# EAGLE library part SI57X (library DaneGardner)
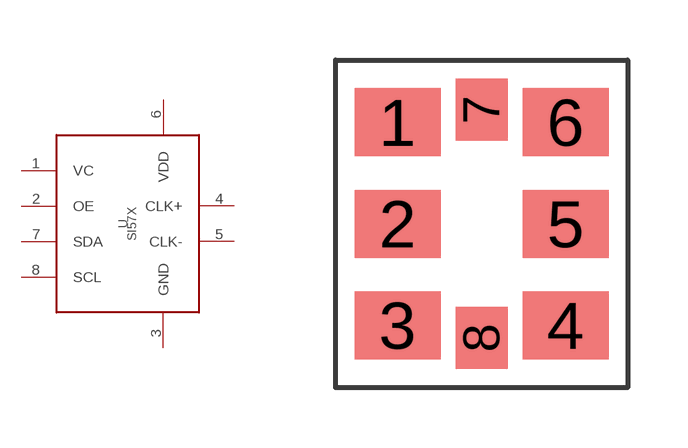
[diagram p9: symbol with the pads of SI57X; footprint SI57X]

Designator prefix -

## SI57X  [SI57X]
1  VC  in
2  OE  in
3  GND  pwr
4  CLK+  out
5  CLK-  out
6  VDD  pwr
7  SDA
8  SCL  in

## Footprint SI57X (pad centres in mm)
smd 2.15 x 1.7: 1 -2.1,2.54; 2 -2.1,0; 3 -2.1,-2.54; 4 2.1,-2.54; 5 2.1,0; 6 2.1,2.54
smd 1.3 x 1.545: 7 0,2.853; 8 0,-2.853